# Altium footprint library MP1658.PcbLib: 1 footprints
Each footprint in its own frame and in the unit in brackets; x right, y up, seen from the top. Pads: shape width x height; smd on the part's side, far side on the other; paste and mask are expansions set on the pad; w line width, h text height; cw(c..) or ccw(c..) is an arc to the next point about the centre after c.
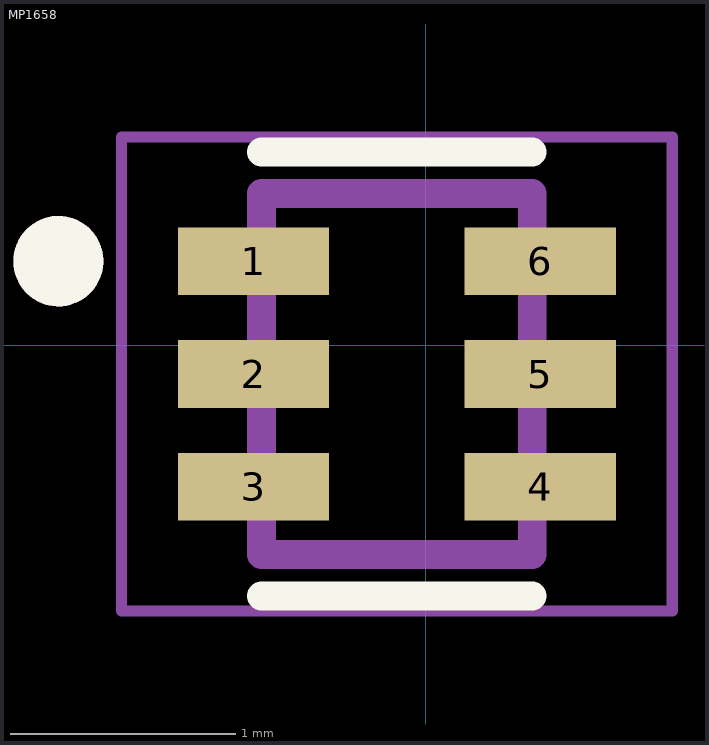
[diagram p0: the footprint, top view; thin cyan lines are the x and y axes]

## MP1658 [mm]
pads (6):
  rect 0.67x0.3 smd: 1(-0.762,0.373) 2(-0.762,-0.127) 3(-0.762,-0.627) 4(0.508,-0.627) 5(0.508,-0.127) 6(0.508,0.373)
Top Overlay:
  circle w0.2: c-1.627,0.373 r0.1
  lines w0.127: -0.727,-1.111 0.473,-1.111 ; -0.727,0.857 0.473,0.857
Mechanical 13:
  circle w0.2: c-1.627,0.373 r0.1
  lines w0.127: -0.727,-0.927 -0.727,0.673 0.473,0.673 0.473,-0.927 -0.727,-0.927
Mechanical 15:
  lines w0.05: -1.347,-1.177 -1.347,0.923 1.093,0.923 1.093,-1.177 -1.347,-1.177